# EAGLE library part FAN8303 (library voltage_regulators)
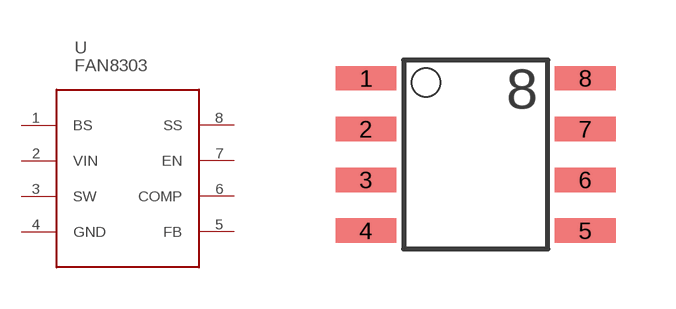
[diagram p2: symbol with the pads of SO-8; footprint SO-8]

Designator prefix -

## FAN8303  [SO-8]
1  BS
2  VIN
3  SW
4  GND
5  FB
6  COMP
7  EN
8  SS

## Footprint SO-8 (pad centres in mm)
smd 1.524 x 0.61: 1 -2.743,1.905; 2 -2.743,0.635; 3 -2.743,-0.635; 4 -2.743,-1.905; 5 2.743,-1.905; 6 2.743,-0.635; 7 2.743,0.635; 8 2.743,1.905